# Altium footprint library TimerSMD_Models.PcbLib: 33 footprints (part 3 of 3)
Each footprint in its own frame and in the unit in brackets; x right, y up, seen from the top. Pads: shape width x height; smd on the part's side, far side on the other; paste and mask are expansions set on the pad; w line width, h text height; cw(c..) or ccw(c..) is an arc to the next point about the centre after c.
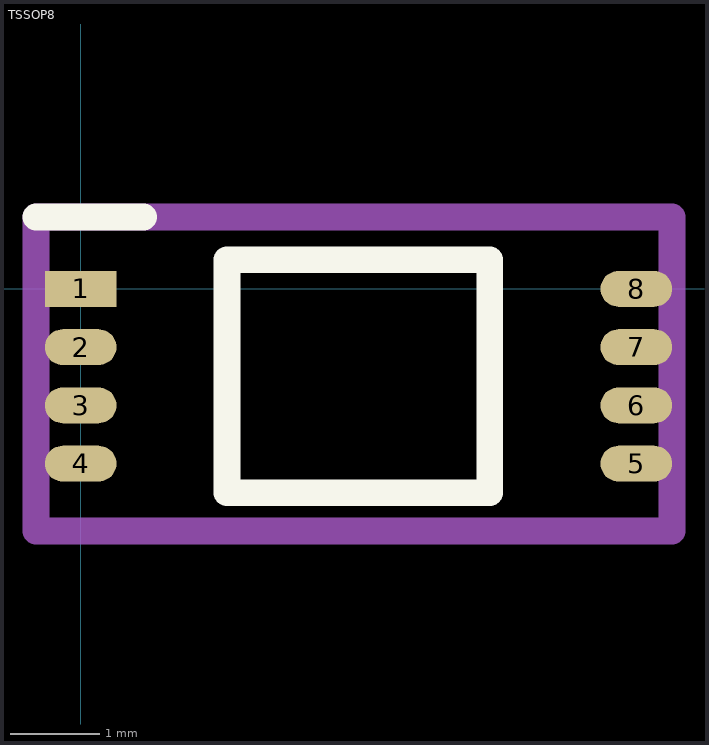
[diagram p2: the footprint, top view; thin cyan lines are the x and y axes]

## TSSOP8 [mm]
pads (8):
  rect 0.8x0.4 smd: 1(0,0)
  oval 0.8x0.4 smd: 2(0,-0.65) 3(0,-1.3) 4(0,-1.95) 5(6.2,-1.95) 6(6.2,-1.3) 7(6.2,-0.65) 8(6.2,0)
Top Overlay:
  lines w0.3: -0.5,0.8 0.7,0.8 ; 1.635,-2.275 4.565,-2.275 4.565,0.325 3.263,0.325 1.635,0.325 1.635,-2.275
Mechanical 2:
  lines w0.3: -0.5,-2.7 -0.5,0.8 6.6,0.8 6.6,-2.7 -0.5,-2.7
  text ".Designator" at 0.902,-1.533 h1
3D body "User Library-TSSOP-8.STEP": height 1.06, standoff -0.14, extent -0.1,-2.5 6.3,0.5